# Altium schematic symbol library bridge_rectifier_schottky.SchLib: 1 symbol
Pins are listed as number, name and electrical type; pins without a type are passive.

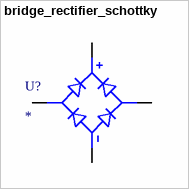
[diagram p0: symbol bridge_rectifier_schottky]

## bridge_rectifier_schottky
designator U?
Value: *
pins: 1 NEG, 2 POS, 3 AC2, 4 AC1